# Altium schematic symbol library common.SchLib: 36 symbols
Pins are listed as number, name and electrical type; pins without a type are passive.

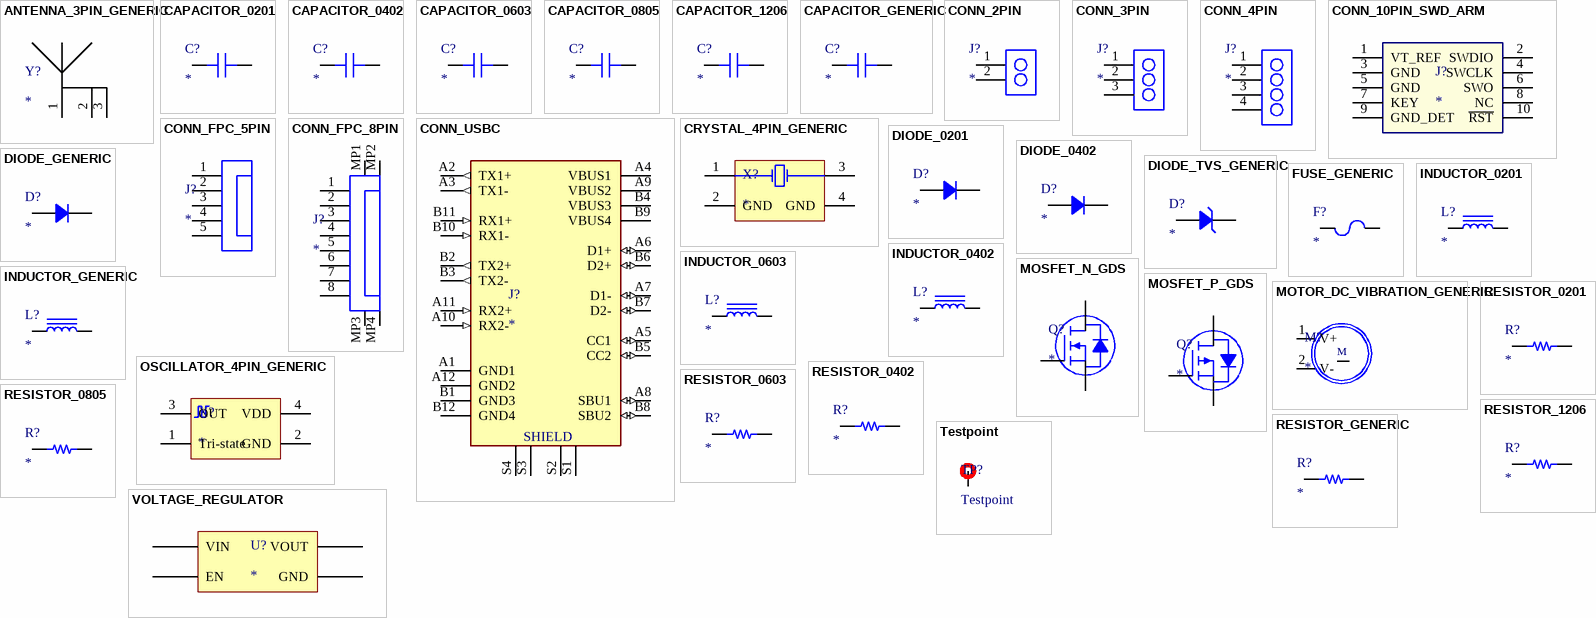
[diagram p0: symbols ANTENNA_3PIN_GENERIC to VOLTAGE_REGULATOR]

## ANTENNA_3PIN_GENERIC
designator Y?
Generic antenna with 3 pins; Part Number: *; Value: *; Device Package: *; Manufacturer: *; Mounting Type: SMT; Operating Temperature: *; Size / Dimension: *; Thickness (Max): *; Tolerance: *; Voltage - Rated: *; Distributor link 1: *; Distributor link 2: *; Distributor link 3: *
pins: 1 RF, 2 GND, 3 GND

## CAPACITOR_0201
designator C?
Capacitor SMT 0201; Part Number: *; Value: *; Device Package: 0201 (0603 Metric); Manufacturer: *; Mounting Type: SMT; Operating Temperature: *; Size / Dimension: 0.024" L x 0.012" W (0.60mm x 0.30mm); Thickness (Max): *; Tolerance: *; Voltage - Rated: *; Distributor link 1: *; Distributor link 2: *; Distributor link 3: *
footprint SMD_CAPACITOR_0201
pins: 1, 2

## CAPACITOR_0402
designator C?
Capacitor SMT 0402; Part Number: *; Value: *; Device Package: 0402 (1005 Metric); Manufacturer: *; Mounting Type: SMT; Operating Temperature: *; Size / Dimension: 0.039" L x 0.020" W (1.00mm x 0.50mm); Thickness (Max): *; Tolerance: *; Voltage - Rated: *; Distributor link 1: *; Distributor link 2: *; Distributor link 3: *
footprint SMD_CAPACITOR_0402
pins: 1, 2

## CAPACITOR_0603
designator C?
Capacitor SMT 0603; Part Number: *; Value: *; Device Package: 0603 (1608 Metric); Manufacturer: *; Mounting Type: SMT; Operating Temperature: *; Size / Dimension: 0.063" L x 0.031" W (1.60mm x 0.80mm); Thickness (Max): *; Tolerance: *; Voltage - Rated: *; Distributor link 1: *; Distributor link 2: *; Distributor link 3: *
footprint SMD_CAPACITOR_0603
pins: 1, 2

## CAPACITOR_0805
designator C?
Capacitor SMT 0805; Part Number: *; Value: *; Device Package: 0805 (2012 Metric); Manufacturer: *; Mounting Type: SMT; Operating Temperature: *; Size / Dimension: 0.079" L x 0.049" W (2.00mm x 1.25mm); Thickness (Max): *; Tolerance: *; Voltage - Rated: *; Distributor link 1: *; Distributor link 2: *; Distributor link 3: *
footprint SMD_CAPACITOR_0805
pins: 1, 2

## CAPACITOR_1206
designator C?
Capacitor SMT 1206; Part Number: *; Value: *; Device Package: 1206 (3216 Metric); Manufacturer: *; Mounting Type: SMT; Operating Temperature: *; Size / Dimension: 0.126" L x 0.063" W (3.20mm x 1.60mm); Thickness (Max): *; Tolerance: *; Voltage - Rated: *; Distributor link 1: *; Distributor link 2: *; Distributor link 3: *
footprint SMD_CAPACITOR_1206
pins: 1, 2

## CAPACITOR_GENERIC
designator C?
Capacitor Generic; Part Number: *; Value: *; Device Package: *; Manufacturer: *; Mounting Type: *; Operating Temperature: *; Size / Dimension: *; Thickness (Max): *; Tolerance: *; Voltage - Rated: *; Distributor link 1: *; Distributor link 2: *; Distributor link 3: *
pins: 1, 2

## CONN_2PIN
designator J?
Connector 2-pin generic; Part Number: *; Value: *; Device Package: *; Manufacturer: *; Mounting Type: *; Operating Temperature: *; Size / Dimension: *; Thickness (Max): *; Voltage - Rated: *; Distributor link 1: *; Distributor link 2: *; Distributor link 3: *
pins: 1, 2

## CONN_3PIN
designator J?
Connector 3-pin generic; Part Number: *; Value: *; Device Package: *; Manufacturer: *; Mounting Type: *; Operating Temperature: *; Size / Dimension: *; Thickness (Max): *; Voltage - Rated: *; Distributor link 1: *; Distributor link 2: *; Distributor link 3: *
pins: 1, 2, 3

## CONN_4PIN
designator J?
Connector 4-pin generic; Part Number: *; Value: *; Device Package: *; Manufacturer: *; Mounting Type: *; Operating Temperature: *; Size / Dimension: *; Thickness (Max): *; Voltage - Rated: *; Distributor link 1: *; Distributor link 2: *; Distributor link 3: *
pins: 1, 2, 3, 4

## CONN_10PIN_SWD_ARM
designator J?
10-pin ARM SWD connector for debugging; Part Number: *; Value: *; Device Package: *; Manufacturer: *; Mounting Type: *; Operating Temperature: *; Package / Case: *; Size / Dimension: *; Distributor link 1: *; Distributor link 2: *; Distributor link 3: *
pins: 1 VT_REF "Target voltage reference", 2 SWDIO, 3 GND, 4 SWCLK, 5 GND, 6 SWO, 7 KEY "Key pin, depending on the connector it might be missing physical pin. Used for alignment.", 8 NC, 9 GND_DET "Ground detect", 10 ~{RST}

## CONN_FPC_5PIN
designator J?
FPC connector 5-pin generic; Part Number: *; Value: *; Device Package: *; Manufacturer: *; Mounting Type: *; Operating Temperature: *; Size / Dimension: *; Thickness (Max): *; Voltage - Rated: *; Distributor link 1: *; Distributor link 2: *; Distributor link 3: *
pins: 1, 2, 3, 4, 5

## CONN_FPC_8PIN
designator J?
FPC connector 8-pin generic; Part Number: *; Value: *; Device Package: *; Manufacturer: *; Mounting Type: *; Operating Temperature: *; Size / Dimension: *; Thickness (Max): *; Voltage - Rated: *; Distributor link 1: *; Distributor link 2: *; Distributor link 3: *
pins: 1, 2, 3, 4, 5, 6, 7, 8, MP1, MP2, MP3, MP4

## CONN_USBC
designator J?
USB-C connector; Part Number: *; Value: *; Device Package: *; Manufacturer: *; Mounting Type: *; Operating Temperature: *; Size / Dimension: *; Thickness (Max): *; Voltage - Rated: *; Distributor link 1: *; Distributor link 2: *; Distributor link 3: *
pins: A1 GND1 (power), A2 TX1+ (out), A3 TX1- (out), A4 VBUS1 (power), A5 CC1 (io), A6 D1+ (io), A7 D1- (io), A8 SBU1 (io), A9 VBUS2 (power), A10 RX2- (in), A11 RX2+ (in), A12 GND2 (power), B1 GND3 (power), B2 TX2+ (out), B3 TX2- (out), B4 VBUS3 (power), B5 CC2 (io), B6 D2+ (io), B7 D2- (io), B8 SBU2 (io), B9 VBUS4 (power), B10 RX1- (in), B11 RX1+ (in), B12 GND4 (power), S1 SHIELD, S2 SHIELD, S3 SHIELD, S4 SHIELD

## CRYSTAL_4PIN_GENERIC
designator X?
Crystal 4-pin Generic; Part Number: *; Value: *; Device Package: *; Manufacturer: *; Mounting Type: *; Operating Temperature: *; Size / Dimension: *; Thickness (Max): *; Voltage - Rated: *; Distributor link 1: *; Distributor link 2: *; Distributor link 3: *
pins: 1 X1, 2 GND (power), 3 X2, 4 GND (power)

## DIODE_0201
designator D?
Diode SMT 0201; Part Number: *; Value: *; Device Package: 0201 (0603 Metric); Manufacturer: *; Mounting Type: SMT; Operating Temperature: *; Size / Dimension: 0.024" L x 0.012" W (0.60mm x 0.30mm); Thickness (Max): *; Tolerance: *; Voltage - Rated: *; Distributor link 1: *; Distributor link 2: *; Distributor link 3: *
footprint SMD_DIODE_0201
pins: 1, 2

## DIODE_0402
designator D?
Diode SMT 0402; Part Number: *; Value: *; Device Package: 0402 (1005 Metric); Manufacturer: *; Mounting Type: SMT; Operating Temperature: *; Size / Dimension: 0.039" L x 0.020" W (1.00mm x 0.50mm); Thickness (Max): *; Tolerance: *; Voltage - Rated: *; Distributor link 1: *; Distributor link 2: *; Distributor link 3: *
footprint SMD_DIODE_0402
pins: 1, 2

## DIODE_GENERIC
designator D?
Diode Generic; Part Number: *; Value: *; Device Package: *; Manufacturer: *; Mounting Type: SMT; Operating Temperature: *; Size / Dimension: *; Thickness (Max): *; Tolerance: *; Voltage - Rated: *; Distributor link 1: *; Distributor link 2: *; Distributor link 3: *
pins: 1, 2

## DIODE_TVS_GENERIC
designator D?
Generic TVS Diode; Part Number: *; Value: *; Device Package: *; Manufacturer: *; Mounting Type: *; Operating Temperature: *; Size / Dimension: *; Thickness (Max): *; Tolerance: *; Voltage - Rated: *; Distributor link 1: *; Distributor link 2: *; Distributor link 3: *
pins: 1, 2

## FUSE_GENERIC
designator F?
Generic Fuse; Part Number: *; Value: *; Device Package: *; Manufacturer: *; Mounting Type: *; Operating Temperature: *; Size / Dimension: *; Thickness (Max): *; Tolerance: *; Voltage - Rated: *; Distributor link 1: *; Distributor link 2: *; Distributor link 3: *
pins: 1, 2

## INDUCTOR_0201
designator L?
Inductor SMT 0201; Part Number: *; Value: *; Device Package: 0201 (0603 Metric); Manufacturer: *; Mounting Type: SMT; Operating Temperature: *; Size / Dimension: 0.024" L x 0.012" W (0.60mm x 0.30mm); Thickness (Max): *; Tolerance: *; Voltage - Rated: *; Distributor link 1: *; Distributor link 2: *; Distributor link 3: *
footprint SMD_INDUCTOR_0201
pins: 1, 2

## INDUCTOR_0402
designator L?
Inductor SMT 0402; Part Number: *; Value: *; Device Package: 0402 (1005 Metric); Manufacturer: *; Mounting Type: SMT; Operating Temperature: *; Size / Dimension: 0.039" L x 0.020" W (1.00mm x 0.50mm); Thickness (Max): *; Tolerance: *; Voltage - Rated: *; Distributor link 1: *; Distributor link 2: *; Distributor link 3: *
footprint SMD_INDUCTOR_0402
pins: 1, 2

## INDUCTOR_0603
designator L?
Inductor SMT 0603; Part Number: *; Value: *; Device Package: 0603 (1608 Metric); Manufacturer: *; Mounting Type: SMT; Operating Temperature: *; Size / Dimension: 0.063" L x 0.031" W (1.60mm x 0.80mm); Thickness (Max): *; Tolerance: *; Voltage - Rated: *; Distributor link 1: *; Distributor link 2: *; Distributor link 3: *
footprint SMD_INDUCTOR_0603
pins: 1, 2

## INDUCTOR_GENERIC
designator L?
Inductor Generic; Part Number: *; Value: *; Device Package: *; Manufacturer: *; Mounting Type: *; Operating Temperature: *; Size / Dimension: *; Thickness (Max): *; Tolerance: *; Voltage - Rated: *; Distributor link 1: *; Distributor link 2: *; Distributor link 3: *
pins: 1, 2

## MOSFET_N_GDS
designator Q?
N-MOSFET SMT; Part Number: *; Value: *; Device Package: *; Manufacturer: *; Mounting Type: SMT; Operating Temperature: *; Size / Dimension: *; Thickness (Max): *; Voltage - Rated: *; Distributor link 1: *; Distributor link 2: *; Distributor link 3: *
pins: D, G, S

## MOSFET_P_GDS
designator Q?
P-MOSFET SMT; Part Number: *; Value: *; Device Package: *; Manufacturer: *; Mounting Type: SMT; Operating Temperature: *; Size / Dimension: *; Thickness (Max): *; Voltage - Rated: *; Distributor link 1: *; Distributor link 2: *; Distributor link 3: *
pins: D, G, S

## MOTOR_DC_VIBRATION_GENERIC
designator M?
Generic DC vibration motor; Part Number: *; Value: *; Device Package: *; Manufacturer: *; Mounting Type: *; Operating Temperature: *; Size / Dimension: *; Thickness (Max): *; Voltage - Rated: *; Distributor link 1: *; Distributor link 2: *; Distributor link 3: *
pins: 1 V+ (power), 2 V- (power)
text: M

## OSCILLATOR_4PIN_GENERIC
designator X?
Oscillator 4-pin Generic with tri-state control; Part Number: *; Value: *; Device Package: *; Manufacturer: *; Mounting Type: *; Operating Temperature: *; Size / Dimension: *; Thickness (Max): *; Voltage - Rated: *; Distributor link 1: *; Distributor link 2: *; Distributor link 3: *
pins: 1 Tri-state, 2 GND (power), 3 OUT, 4 VDD (power)

## RESISTOR_0201
designator R?
Resistor SMT 0201; Part Number: *; Value: *; Device Package: 0201 (0603 Metric); Manufacturer: *; Mounting Type: SMT; Operating Temperature: *; Size / Dimension: 0.024" L x 0.012" W (0.60mm x 0.30mm); Thickness (Max): *; Tolerance: *; Voltage - Rated: *; Distributor link 1: *; Distributor link 2: *; Distributor link 3: *
footprint SMD_RESISTOR_0201
pins: 1, 2

## RESISTOR_0402
designator R?
Resistor SMT 0402; Part Number: *; Value: *; Device Package: 0402 (1005 Metric); Manufacturer: *; Mounting Type: SMT; Operating Temperature: *; Size / Dimension: 0.039" L x 0.020" W (1.00mm x 0.50mm); Thickness (Max): *; Tolerance: *; Voltage - Rated: *; Distributor link 1: *; Distributor link 2: *; Distributor link 3: *
footprint SMD_RESISTOR_0402
pins: 1, 2

## RESISTOR_0603
designator R?
Resistor SMT 0603; Part Number: *; Value: *; Device Package: 0603 (1608 Metric); Manufacturer: *; Mounting Type: SMT; Operating Temperature: *; Size / Dimension: 0.063" L x 0.031" W (1.60mm x 0.80mm); Thickness (Max): *; Tolerance: *; Voltage - Rated: *; Distributor link 1: *; Distributor link 2: *; Distributor link 3: *
footprint SMD_RESISTOR_0603
pins: 1, 2

## RESISTOR_0805
designator R?
Resistor SMT 0805; Part Number: *; Value: *; Device Package: 0805 (2012 Metric); Manufacturer: *; Mounting Type: SMT; Operating Temperature: *; Size / Dimension: 0.079" L x 0.049" W (2.00mm x 1.25mm); Thickness (Max): *; Tolerance: *; Voltage - Rated: *; Distributor link 1: *; Distributor link 2: *; Distributor link 3: *
footprint SMD_RESISTOR_0805
pins: 1, 2

## RESISTOR_1206
designator R?
Resistor SMT 1206; Part Number: *; Value: *; Device Package: 1206 (3216 Metric); Manufacturer: *; Mounting Type: SMT; Operating Temperature: *; Size / Dimension: 0.126" L x 0.063" W (3.20mm x 1.60mm); Thickness (Max): *; Tolerance: *; Voltage - Rated: *; Distributor link 1: *; Distributor link 2: *; Distributor link 3: *
footprint SMD_RESISTOR_1206
pins: 1, 2

## RESISTOR_GENERIC
designator R?
Resistor Generic; Part Number: *; Value: *; Device Package: *; Manufacturer: *; Mounting Type: *; Operating Temperature: *; Size / Dimension: *; Thickness (Max): *; Tolerance: *; Voltage - Rated: *; Distributor link 1: *; Distributor link 2: *; Distributor link 3: *
pins: 1, 2

## Testpoint
designator TP?
Testpoint for measuring at the PCB
pins: 1

## VOLTAGE_REGULATOR
designator U?
footprint SOT23-5
pins: 1 VIN, 2 GND, 3 EN, 5 VOUT